# Altium footprint library SPPH410100.PcbLib: 2 footprints
Each footprint in its own frame and in the unit in brackets; x right, y up, seen from the top. Pads: shape width x height; smd on the part's side, far side on the other; paste and mask are expansions set on the pad; w line width, h text height; cw(c..) or ccw(c..) is an arc to the next point about the centre after c.
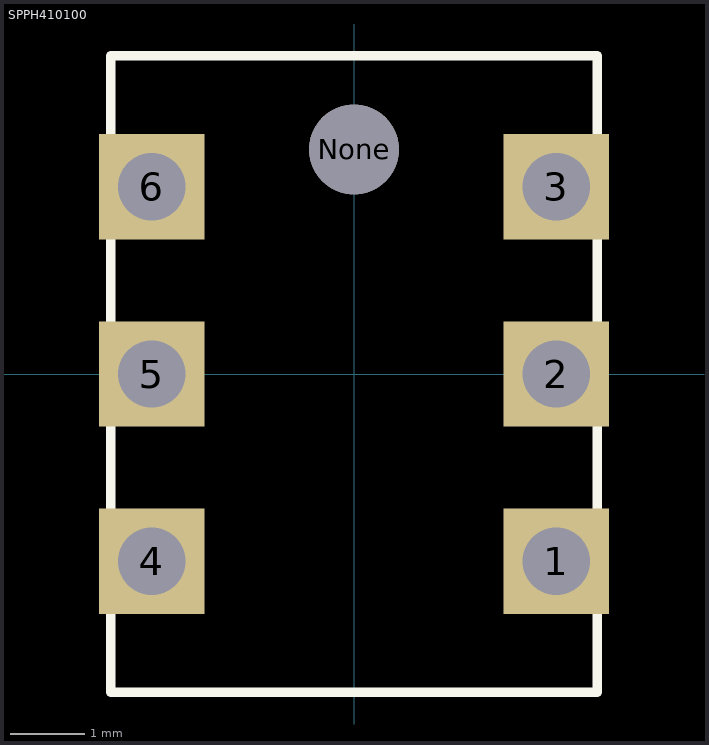
[diagram p0: the footprints below, top view; thin cyan lines are the x and y axes]

## PCBComponent_1 [mm]

## SPPH410100 [mm]
pads (7):
  rect 1.408x1.408 hole 0.9: 1(2.7,-2.5) 2(2.7,0) 3(2.7,2.5) 4(-2.7,-2.5) 5(-2.7,0) 6(-2.7,2.5)
  round 1.2 hole 1.2 unplated: None(0,3)
Top Overlay:
  lines w0.127: -3.25,-4.25 3.25,-4.25 3.25,4.25 -3.25,4.25 -3.25,-4.25
3D body "SPPH410100-2.STEP": height 18, standoff -3.5, extent -3.25,-4.45 3.25,4.25